# Altium footprint library RF_Antenna.PcbLib: 5 footprints
Each footprint in its own frame and in the unit in brackets; x right, y up, seen from the top. Pads: shape width x height; smd on the part's side, far side on the other; paste and mask are expansions set on the pad; w line width, h text height; cw(c..) or ccw(c..) is an arc to the next point about the centre after c.
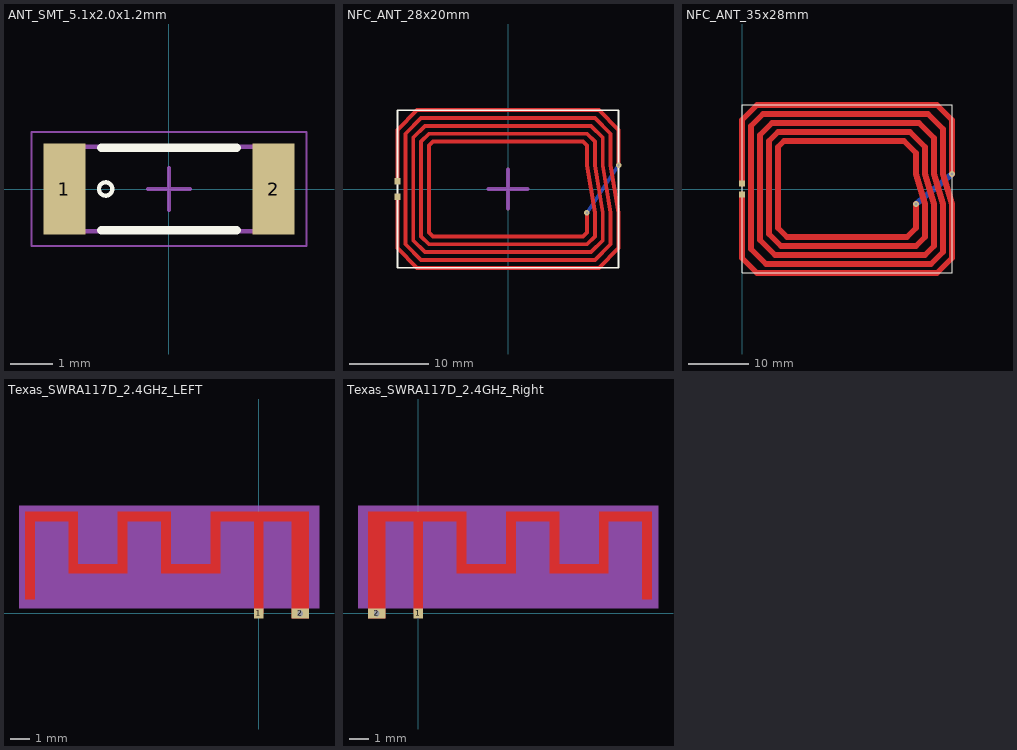
[diagram p0: the footprints below, top view; thin cyan lines are the x and y axes]

## ANT_SMT_5.1x2.0x1.2mm [mm] "Chip Capacitor, 2-Leads, Body 5.10x2.00mm, IPC Medium Density"
height 1.2
pads (2):
  rect 1x2.15 smd: 1(-2.475,0) 2(2.475,0)
Top Overlay:
  circle w0.1: c-1.5,0 r0.158
  lines w0.2: -1.6,-0.975 1.6,-0.975 ; -1.6,0.975 1.6,0.975
Mechanical 13:
  lines w0.1: -2.55,-1 2.55,-1 2.55,1 -2.55,1 -2.55,-1
Mechanical 15:
  lines w0.05: -3.25,-1.35 3.25,-1.35 3.25,1.35 -3.25,1.35 -3.25,-1.35
  lines w0.1: -0.5,0 0.5,0 ; 0,-0.5 0,0.5
3D body: height 1.2, standoff 0, extent 2.05,-1 2.55,1
3D body: height 1.2, standoff 0, extent -2.55,-1 -2.05,1
3D body: height 1.2, standoff 0, extent -2.05,-1 2.05,1

## NFC_ANT_28x20mm [mm]
pads (2):
  rect 0.8x0.8 smd: 1(-14,1) 2(-14,-1)
via 10,-3 diameter 0.7 hole 0.3
via 14,3 diameter 0.7 hole 0.3
Top Layer:
  region: -13.75,2 -14.25,2 -14.25,1.25 -13.75,1.25
  rectangle: -14.25,-2 -13.75,-1.25
  lines w0.5: -14,-2 -14,-7.5 -11.5,-10 11.5,-10 14,-7.5 14,-3 13,3 13,7 11,9 -11,9 -13,7 -13,-7 -11,-9 11,-9 13,-7 13,-3 12,3 12,6.5 10.5,8 -10.5,8 -12,6.5 -12,-6.5 -10.5,-8 ; -14,1.75 -14,7.5 -11.5,10 11.5,10 14,7.5 14,3 ; 10,-3 10,-5.5 9.5,-6 -9.5,-6 -10,-5.5 -10,5.5 -9.5,6 9.5,6 10,5.5 10,3 11,-3 11,-6 10,-7 -10,-7 -11,-6 -11,6 -10,7 10,7 11,6 11,3 12,-3 12,-6.5 10.5,-8 -10.5,-8 ; -10.5,-8 -10.5,-8
Bottom Layer:
  lines w0.5: 10,-3 14,3
Top Overlay:
  lines w0.2: -14,-10 -14,0 -14,10 14,10 14,-10 -14,-10
Mechanical 15:
  lines w0.5: -2.5,0 2.5,0 ; 0,-2.5 0,2.5
Multi-Layer:
  pour cut-out: -19,14 19,14 19,-14 -19,-14

## NFC_ANT_35x28mm [mm]
pads (2):
  rect 1x1 smd: 1(0,0.9) 2(0,-0.9)
via 35,2.5 diameter 1 hole 0.5
via 29,-2.5 diameter 1 hole 0.5
Top Layer:
  lines w1: 0,-0.9 0,-11.5 2.5,-14 32.5,-14 35,-11.5 35,-2.5 33.5,2.5 33.5,7 33.5,10 31,12.5 3.5,12.5 1.5,10.5 1.5,-10 4,-12.5 31.5,-12.5 33.5,-10.5 33.5,-4.5 33.5,-2.5 32,2.5 32,8.5 29.5,11 5,11 3,9 3,-8.5 5.5,-11 30.5,-11 32,-9.5 32,-2.5 30.5,2.5 30.5,6 30.5,7 28,9.5 25,9.5 6,9.5 4.5,8 4.5,-7.5 6.5,-9.5 29,-9.5 30.5,-8 30.5,-2.5 29,2.5 29,6 27,8 23,8 7.5,8 7,8 6,7 6,2.5 6,-6 6,-6.5 7.5,-8 25,-8 27.5,-8 29,-6.5 29,-2.5 ; 0,0.9 0,11.5 2.5,14 32.5,14 35,11.5 35,2.5
Bottom Layer:
  lines w1: 29,-2.5 35,2.5
Top Overlay:
  lines w0.2: 0,-14 35,-14 35,14 0,14 0,0 0,-14
Multi-Layer:
  pour cut-out: -7.5,20 42.5,20 42.5,-20 -7.5,-20

## Texas_SWRA117D_2.4GHz_LEFT [mm]
pads (2):
  rect 0.5x0.5 smd: 1(0,0)
  rect 0.9x0.5 hole 0.3: 2(2.1,0)
Top Layer:
  rectangle: -11.85,0.71 -11.35,5.15
  region: -9.15,5.15 -11.85,5.15 -11.85,4.65 -9.15,4.65
  region: -6.65,2.51 -9.65,2.51 -9.65,2.01 -6.65,2.01
  region: -6.65,5.15 -7.15,5.15 -7.15,2.01 -6.65,2.01
  rectangle: -9.65,2.01 -9.15,5.15
  rectangle: -4.95,2.01 -4.45,5.15
  region: -1.95,5.15 -2.45,5.15 -2.45,2.01 -1.95,2.01
  region: 0.25,5.15 -0.25,5.15 -0.25,0 0.25,0
  region: 2.55,5.15 1.65,5.15 1.65,-0.25 2.55,-0.25
  region: 2.55,5.15 -2.45,5.15 -2.45,4.65 2.55,4.65
  region: -1.95,2.51 -4.95,2.51 -4.95,2.01 -1.95,2.01
  region: -4.45,5.15 -7.15,5.15 -7.15,4.65 -4.45,4.65
Mechanical 15:
  pour cut-out: 3.05,0.25 3.05,5.45 -12.15,5.45 -12.15,0.25
  pour cut-out: 2.75,0.25

## Texas_SWRA117D_2.4GHz_Right [mm]
pads (2):
  rect 0.5x0.5 smd: 1(0,0)
  rect 0.9x0.5 hole 0.3: 2(-2.1,0)
Top Layer:
  rectangle: 4.45,4.65 7.15,5.15
  rectangle: 1.95,2.01 4.95,2.51
  rectangle: -2.55,4.65 2.45,5.15
  rectangle: -2.55,-0.25 -1.65,5.15
  rectangle: -0.25,0 0.25,5.15
  rectangle: 1.95,2.01 2.45,5.15
  region: 4.95,5.15 4.45,5.15 4.45,2.01 4.95,2.01
  region: 9.65,5.15 9.15,5.15 9.15,2.01 9.65,2.01
  rectangle: 6.65,2.01 7.15,5.15
  rectangle: 6.65,2.01 9.65,2.51
  rectangle: 9.15,4.65 11.85,5.15
  region: 11.85,5.15 11.35,5.15 11.35,0.71 11.85,0.71
Mechanical 15:
  pour cut-out: -2.75,0.25
  pour cut-out: -3.05,0.25 -3.05,5.45 12.15,5.45 12.15,0.25